# Altium schematic symbol library USB-C.SchLib: 1 symbol
Pins are listed as number, name and electrical type; pins without a type are passive.

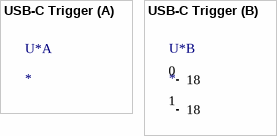
[diagram p0: symbol USB-C Trigger]

## USB-C Trigger
designator U*
https://vi.aliexpress.com/item/1005004589893874.html?pdp_npi=2%40dis%21USD%21US%20%241.42%21US%20%241.25%21%21%21%21%21%40210323a416773163015511600e823f%2112000029744494206%21im&gatewayAdapt=glo2vnm; ComponentLink1Description: New link; ComponentLink1URL: https://vi.aliexpress.com/item/1005004589893874.html?pdp_npi=2%40dis%21USD%21US%20%241.42%21US%20%241.25%21%21%21%21%21%40210323a416773163015511600e823f%2112000029744494206%21im&gatewayAdapt=glo2vnm
footprint PCBComponent_1
part B pins: 0 18, 1 18